# EAGLE library part TFT-KAPAZITIV (library CAN-Display)
TFT-Kapazitiv
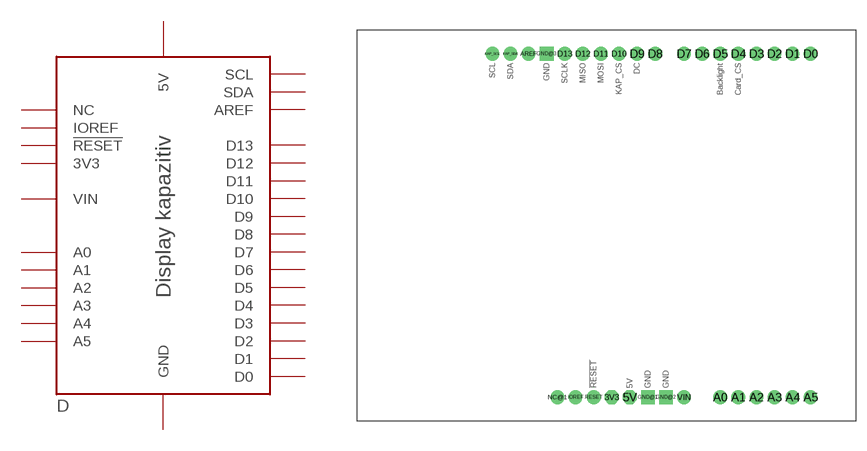
[diagram p2: symbol with the pads of TFT-KAPAZITIV; footprint TFT-KAPAZITIV]

Designator prefix D

## TFT-KAPAZITIV  [TFT-KAPAZITIV]
3V3  3V3  nc
5V  5V  pwr
A0  A0  nc
A1  A1  nc
A2  A2  nc
A3  A3  nc
A4  A4
A5  A5
AREF  AREF  nc
D0  D0  nc
D1  D1  nc
D2  D2  nc
D3  D3  nc
D4  D4
D5  D5
D6  D6  nc
D7  D7
D8  D8  nc
D9  D9
D10  D10
D11  D11
D12  D12
D13  D13
GND@1  GND  pwr
GND@2  GND  pwr
GND@3  GND  pwr
IOREF  IOREF  nc
KAP_SCL  SCL
KAP_SDA  SDA
NC@1  NC  nc
RESET  !RESET!
VIN  VIN  nc

## Footprint TFT-KAPAZITIV (pad centres in mm)
drill 1 pad 1.93 octagon: 3V3 1.27,-24.13; 5V 3.81,-24.13
drill 1 pad 1.93: A0 16.51,-24.13; A1 19.05,-24.13; A2 21.59,-24.13; A3 24.13,-24.13; A4 26.67,-24.13; A5 29.21,-24.13; AREF -10.414,24.13; D0 29.21,24.13; D1 26.67,24.13; D2 24.13,24.13; D3 21.59,24.13; D4 19.05,24.13; D5 16.51,24.13; D6 13.97,24.13; D7 11.43,24.13; D8 7.366,24.13; D9 4.826,24.13; D10 2.286,24.13; D11 -0.254,24.13; D12 -2.794,24.13; D13 -5.334,24.13; IOREF -3.81,-24.13; KAP_SCL -15.494,24.13; KAP_SDA -12.954,24.13; NC@1 -6.35,-24.13; RESET -1.27,-24.13; VIN 11.43,-24.13
drill 1 pad 1.93 square: GND@1 6.35,-24.13; GND@2 8.89,-24.13; GND@3 -7.874,24.13